# Altium schematic symbol library MS IMP Library.SchLib: 375 symbols (part 6 of 9)
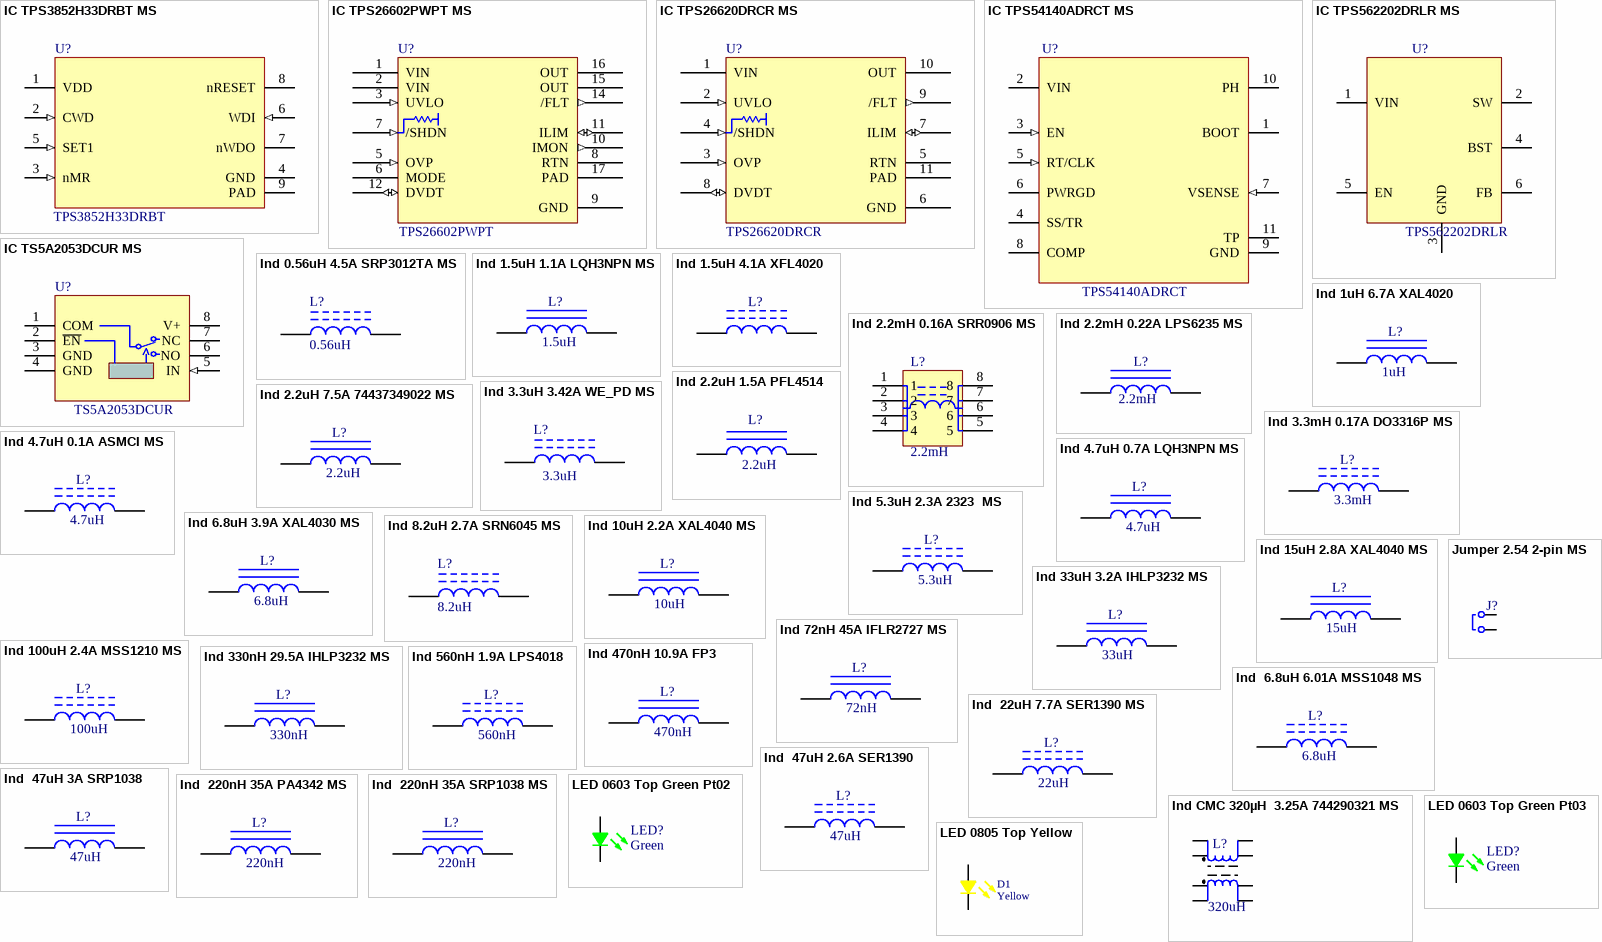
[diagram p27: symbols IC TPS3852H33DRBT MS to LED 0805 Top Yellow]

## IC TPS26620DRCR MS
designator U?, comment TPS26620DRCR
Electronic Fuse Regulator - 880mA 10-VSON (3x3); Manufacturer: Texas Instruments; Power Supply: 4.5V~57V; Production Status: Active; Distributor: Digi-Key; Distributor Part Number: 296-TPS26620DRCRCT-ND; Last Revision Date: 16.06.2021; Temperature Range: -40°C ~ +125°C; Mounting: SMD; ComponentLink1Description: Datasheet; ComponentLink1URL: https://www.ti.com/lit/ds/symlink/tps2662.pdf?ts=1623692638260&ref_url=https%253A%252F%252Fwww.google.com%252F; ComponentLink2Description: Distributor; ComponentLink2URL: https://www.digikey.com/en/products/detail/texas-instruments/TPS26620DRCR/9692668; ComponentLink3Description: Manufacturer; ComponentLink3URL: https://www.ti.com/product/TPS2662; Status: Not Checked; DB Parameter 1: 4.5V~57V; DB Parameter 2: 880mA; Rated Current: 880mA; Manufacurer Part Number: TPS26620DRCR
footprint DRC10_2P4X1P65_TEX MS
pins: 1 VIN (power), 2 UVLO (in), 3 OVP (in), 4 /SHDN (in), 5 RTN, 6 GND (power), 7 ILIM (io), 8 DVDT (io), 9 /FLT (out), 10 OUT (power), 11 PAD

## IC TPS54140ADRCT MS
designator U?, comment TPS54140ADRCT
IC REG BUCK ADJ 1.5A 10VSON; Manufacturer: Texas Instruments; Input Voltage: 3.5V ~ 42V; VFB: 0.8V; Production Status: Active; Output Current: 2A; Distributor: Digi-Key; Distributor Part Number: 296-30506-1-ND; Last Revision Date: 15.11.2021; Temperature Range: -40°C ~ +150°C; Mounting: SMD; ComponentLink1Description: Datasheet; ComponentLink1URL: https://www.ti.com/lit/ds/symlink/tps54140a.pdf?ts=1636910813422&ref_url=https%253A%252F%252Fwww.google.com%252F; ComponentLink2Description: Distributor; ComponentLink2URL: https://www.digikey.com/en/products/detail/texas-instruments/TPS54140ADRCT/3451631; ComponentLink3Description: Manufacturer; ComponentLink3URL: https://www.ti.com/product/TPS54140A#reference-designs; Status: Not Checked; Output Voltage: ADJ; DB Parameter 1: ADJ; DB Parameter 2: 1.5A; Isolation: N/A; Manufacturer Part Number: TPS54140ADRCT
footprint DRC10_2P4X1P65_TEX MS
pins: 1 BOOT, 2 VIN (power), 3 EN (in), 4 SS/TR, 5 RT/CLK (in), 6 PWRGD (oc), 7 VSENSE (in), 8 COMP, 9 GND (power), 10 PH, 11 TP (power)

## IC TPS562202DRLR MS
designator U?, comment TPS562202DRLR
DCDC, 4.3-V TO 17-V INPUT, 2-A OUTPUT; Manufacturer: Texas Instruments; Power Supply: 4.3V~17V; DB Parameter 2: 2A; Production Status: Active; Distributor: Digi-Key; Distributor Part Number: 296-TPS562202DRLRCT-ND; Last Revision Date: 08.08.2021; Temperature Range: -40°C ~ +150°C; Mounting: SMD; ComponentLink1Description: Datasheet; ComponentLink1URL: https://www.ti.com/lit/ds/symlink/tps562202.pdf?ts=1628166534683&ref_url=https%253A%252F%252Fwww.ti.com%252Fstore%252Fti%252Fen%252Fp%252Fproduct%252F%253Fp%253DTPS562202DRLR; ComponentLink2Description: Distributor; ComponentLink2URL: https://www.digikey.com/en/products/detail/texas-instruments/TPS562202DRLR/13531316?s=N4IgTCBcDaICoAUDKBWAbGMAGMARASgDL4gC6AvkA; ComponentLink3Description: Manufacturer; ComponentLink3URL: https://www.ti.com/product/TPS562202#product-details##pps; Status: Not Checked; DB Parameter 1: 4.3V~17V; Rated Current: 2A; Manufacturer Part Number: TPS562202DRLR
footprint SOTFL50P160X60-6N
pins: 1 VIN, 2 SW, 3 GND, 4 BST, 5 EN, 6 FB

## IC TS5A2053DCUR MS
designator U?, comment TS5A2053DCUR
IC SWITCH SPDT SINGLE 8VSSOP; Manufacturer: Texas Instruments; Power Supply: 1.65V ~ 5.5V; Production Status: Active; Distributor: Digi-Key; Distributor Part Number: 296-17751-1-ND; Last Revision Date: 14.07.2021; Temperature Range: -40°C ~ +85°C; Mounting: SMD; ComponentLink1Description: Datasheet; ComponentLink1URL: https://www.ti.com/lit/ds/symlink/ts5a2053.pdf?ts=1626251830714&ref_url=https%253A%252F%252Fwww.ti.com%252Fstore%252Fti%252Fen%252Fp%252Fproduct%252F%253Fp%253DTS5A2053DCUR%2526keyMatch%253DTS5A2053DCUR%2526tisearch%253Dsearch-everything; ComponentLink2Description: Distributor; ComponentLink2URL: https://www.digikey.com/en/products/detail/texas-instruments/TS5A2053DCUR/717105; ComponentLink3Description: Manufacturer; ComponentLink3URL: https://www.ti.com/store/ti/en/p/product/?p=TS5A2053DCUR&keyMatch=TS5A2053DCUR&tisearch=search-everything; Status: Not Checked; DB Parameter 1: TS5A2053DCUR; Manufacturer Part Number: TS5A2053DCUR
footprint DCU8 MS
pins: 1 COM, 2 ~{EN}, 3 GND (power), 4 GND (power), 5 IN (in), 6 NO, 7 NC, 8 V+

## Ind 0.56uH 4.5A SRP3012TA MS
designator L?, comment Inductance: 0.56uH  (hidden comment: Inductor)
Inductor 0.56uH 4.5A SRP3012TA; Manufacturer: Bourns Inc.; Manufacturer Part Number: SRP3012TA-R56M; Tolerance: ±20%; Saturation Current: 6.6A; DC Resistance: 0.036R; Core Material: Carbonyl Powder; SRF: 90MHz; Distributor: Digi-Key; Distributor Part Number: SRP3012TA-R56MCT-ND; Last Revision Date: 24.08.2021; Temperature Range: -40°C ~ +125°C; Mounting: SMD; ComponentLink1Description: Datasheet; ComponentLink1URL: https://www.bourns.com/docs/Product-Datasheets/SRP3012TA.pdf; ComponentLink2Description: Distributor; ComponentLink2URL: https://www.digikey.com/en/products/detail/bourns-inc/SRP3012TA-R56M/9350989; ComponentLink3Description: Manufacturer; ComponentLink3URL: https://www.bourns.com/docs/Product-Datasheets/SRP3012TA.pdf; Status: Not Checked; DB Parameter 1: 0.56uH; DB Parameter 2: 4.5A; DB Parameter 3: 0.036R; Rated Current: 4.5A
footprint INDPM3532X120N
pins: 1, 2

## Ind 1.5uH 1.1A LQH3NPN MS
designator L?, comment Inductance: 1.5uH  (hidden comment: Inductor)
Inductor 1.5uH 1.1A LQH3NPN; Manufacturer: Murata Electronics; Manufacturer Part Number: LQH3NPN1R5MJRL; Tolerance: ±20%; Saturation Current: 1.95A; DC Resistance: 0.049R; Core Material: Ferrite; DB Parameter 2: 2.8A; SRF: 60MHz; Distributor: Digi-Key; Distributor Part Number: 490-9576-1-ND; Last Revision Date: 30.06.2021; Temperature Range: -40°C ~ +105°C; Mounting: SMD; ComponentLink1Description: Datasheet; ComponentLink1URL: https://search.murata.co.jp/Ceramy/image/img/P02/JELF243A-0114.pdf; ComponentLink2Description: Distributor; ComponentLink2URL: https://www.digikey.com/en/products/detail/murata-electronics/LQH3NPN1R5MJRL/4864846; ComponentLink3Description: Manufacturer; Status: Not Checked; DB Parameter 1: 1.5uH; DB Parameter 3: 0.049R; Rated Current: 1.1A
footprint IND_LQH3NPN1R5MJRL
pins: 1, 2

## Ind 1.5uH 4.1A XFL4020
designator L?, comment Inductor  (value not drawn)
Inductor 1.5uH 4.1A XFL4020; Manufacturer: Coilcraft; Manufacturer Part Number: XFL4020-152MEB; Tolerance: ±20%; DC Resistance: 0.035R; Core Material: Ferrite; DB Parameter 3: 0.033R; Rated Current: 6.7A; Distributor: Mouser; Distributor Part Number: 994-XFL4020-152MEB; Last Revision Date: 20.10.2020; Temperature Range: -40°C ~ +125°C; Mounting: SMD; ComponentLink1Description: Datasheet; ComponentLink1URL: https://eu.mouser.com/datasheet/2/597/xfl4020-270756.pdf; ComponentLink2Description: Distributor; ComponentLink2URL: https://eu.mouser.com/ProductDetail/Coilcraft/XFL4020-152MEB?qs=%2Fha2pyFaduigLhcKZCbSexN8vcfhBgUvAPZqeeynjZnfOZWxBXzTQQ%3D%3D; ComponentLink3Description: Manufacturer; ComponentLink3URL: https://www.coilcraft.com/en-us/products/power/shielded-inductors/molded-inductor/xfl/xfl4020/#; Status: Not Checked; Saturation Current: 4.1A; DB Parameter 1: 1.5uH; DB Parameter 2: 4.1A
footprint INDP XFL4020 MS
pins: 1, 2

## Ind 1uH 6.7A XAL4020
designator L?, comment Inductance: 1uH  (hidden comment: Inductor)
Inductor 1uH 6.7A XAL4020; Manufacturer: Coilcraft; Manufacturer Part Number: XAL4020-102MEC; Tolerance: ±20%; Saturation Current: 8.7A; DC Resistance: 0.0146R; Core Material: Composite; DB Parameter 1: 1.5uH; SRF: 79MHz; Distributor: Mouser; Distributor Part Number: 994-XAL4020-102MEC; Last Revision Date: 07.04.2021; Temperature Range: -40°C ~ +125°C; Mounting: SMD; ComponentLink1Description: Datasheet; ComponentLink1URL: https://eu.mouser.com/datasheet/2/597/xal4000-270751.pdf; ComponentLink2Description: Distributor; ComponentLink2URL: https://eu.mouser.com/ProductDetail/Coilcraft/XAL4020-102MEC?qs=zCSbvcPd3pbLq0M7ZKfPRA%3D%3D; ComponentLink3Description: Manufacturer; ComponentLink3URL: https://eu.mouser.com/datasheet/2/597/xal4000-270751.pdf; Status: Not Checked; DB Parameter 2: 6.7A; DB Parameter 3: 0.0146R; Rated Current: 6.7A
footprint INDP XFL4020 MS
pins: 1, 2

## Ind 2.2mH 0.16A SRR0906 MS
designator L?, comment Inducance: 2.2mH  (hidden comment: Inductor)
Inductor 2.2mH 0.16A SRR0906; Manufacturer: Bourns; Manufacturer Part Number: SRR0906-222YL; Tolerance: ±15%; Saturation Current: 0.18A; DC Resistance: 0.055R; Core Material: Ferrite; DB Parameter 3: 8.5R; Rated Current: 1.6A; SRF: 1.5MHz; Distributor: Mouser; Distributor Part Number: 652-SRR0906-222YL; Last Revision Date: 03.12.2021; Temperature Range: -40°C ~ +125°C; Mounting: SMD; ComponentLink1Description: Datasheet; ComponentLink1URL: https://eu.mouser.com/datasheet/2/54/SRR0906-1391272.pdf; ComponentLink2Description: Distributor; ComponentLink2URL: https://eu.mouser.com/ProductDetail/Bourns/SRR0906-222YL?qs=%2Fha2pyFadujN6V39JVHpRjY603%2FBkn2pO3UzlmLM0FdeodGOOmcCVg%3D%3D; ComponentLink3Description: Manufacturer; ComponentLink3URL: https://eu.mouser.com/datasheet/2/54/SRR0906-1391272.pdf; Status: Not Checked; DB Parameter 1: 2.2mH; DB Parameter 2: 0.16A
footprint SRR0906222YL MS
pins: 1, 2, 3, 4, 5, 6, 7, 8

## Ind 2.2mH 0.22A LPS6235 MS
designator L?, comment Inducance: 2.2mH  (hidden comment: Inductor)
Inductor 2.2mH 0.22A LPS6235; Manufacturer: Coilcraft; Manufacturer Part Number: LPS6235-225MRC; Tolerance: ±20%; Saturation Current: 0.11A; DC Resistance: 6.7R; Core Material: Ferrite; SRF: 1.5MHz; Distributor: Mouser; Distributor Part Number: 994-LPS6235-225MRC; Last Revision Date: 18.08.2023.; Temperature Range: -40°C ~ +85°C; Mounting: SMD; ComponentLink1Description: Datasheet; ComponentLink1URL: https://www.coilcraft.com/getmedia/6d1d784f-2f6f-4f07-8e50-5f62900ff819/lps6235.pdf; ComponentLink2Description: Distributor; ComponentLink2URL: https://eu.mouser.com/ProductDetail/Coilcraft/LPS6235-225MRC?qs=QQJxVsr8EGZHFEJoaJBq5g%3D%3D; ComponentLink3Description: Manufacturer; ComponentLink3URL: https://www.coilcraft.com/en-us/products/power/shielded-inductors/ferrite-drum/lps/lps6235/lps6235-225/; Status: Not Checked; DB Parameter 1: 2.2mH; DB Parameter 2: 0.22A; DB Parameter 3: 6.7R; Rated Current: 0.22A
footprint LPS6235 MS
pins: 1, 2

## Ind 2.2uH 1.5A PFL4514
designator L?, comment Inductance: 2.2uH  (hidden comment: Inductor)
Inductor 2.2uH 1.5A PFL4514; Manufacturer: Coilcraft; Manufacturer Part Number: PFL4514-222MEB; Tolerance: ±20%; Saturation Current: 2.8A; DC Resistance: 0.135R; Core Material: Composite; Distributor: Mouser; Distributor Part Number: 994-PFL4514-222MEB; Last Revision Date: 20.10.2020; Temperature Range: -40°C ~ +85°C; Mounting: SMD; ComponentLink1Description: Datasheet; ComponentLink1URL: https://eu.mouser.com/datasheet/2/597/pfl4514-270682.pdf; ComponentLink2Description: Distributor; ComponentLink2URL: https://eu.mouser.com/ProductDetail/Coilcraft/PFL4514-222MEB?qs=VJjuEbE9QBOLjudvNJHAOw%3D%3D; ComponentLink3Description: Manufacturer; ComponentLink3URL: https://www.coilcraft.com/en-us/products/power/shielded-inductors/molded-inductor/pfl/pfl4514/#; Status: Not Checked; Rated Current: 1.5A; DB Parameter 1: 2.2uH; DB Parameter 2: 1.5A; DB Parameter 3: 0.135R
footprint INDP PFL4514 MS (Coilcraft Shielded Power Inductors)
pins: 1, 2

## Ind 2.2uH 7.5A 74437349022 MS
designator L?, comment Inductance: 2.2uH  (hidden comment: Inductor)
Inductor 2.2uH 7.5A 0.012R; Manufacturer: Würth Elektronik; Manufacturer Part Number: 74437349022; Tolerance: ±20%; Saturation Current: 14A; Core Material: Iron Powder; Distributor: Digi-Key; Distributor Part Number: 732-3352-1-ND; Last Revision Date: 09.08.2021; Temperature Range: -40°C ~ +150°C; Mounting: SMD; ComponentLink1Description: Datasheet; ComponentLink1URL: https://www.we-online.de/katalog/datasheet/74437349022.pdf; ComponentLink2Description: Distributor; ComponentLink2URL: https://www.digikey.com/en/products/detail/w%C3%BCrth-elektronik/74437349022/2791021?s=N4IgTCBcDaIOwBYEGY7IQTgAxggXQF8g; ComponentLink3Description: Manufacturer; ComponentLink3URL: https://www.we-online.com/catalog/en/WE-LHMI?sq=74437349022&sp=https%3A%2F%2Fwww.we-online.com%2Fweb%2Fen%2Fwuerth_elektronik%2Fsearchpage.php%3Fsearch%3D74437349022#74437349022; Status: Not Checked; DC Resistance: 0.012R; DB Parameter 1: 2.2uH; DB Parameter 2: 7.5A; DB Parameter 3: 0.012R; Rated Current: 7.5A
footprint INDPM110100X400N
pins: 1, 2

## Ind 3.3mH 0.17A DO3316P MS
designator L?, comment Inductance: 3.3mH  (hidden comment: Inductor)
Inductor  3.3mH 0.17A 8.97R; Manufacturer: Coilcraft; Manufacturer Part Number: DO3316P-335MLD; Tolerance: ±20%; Core Material: Ferrite; Distributor: Mouser; Distributor Part Number: 994-DO3316P-335MLD; Last Revision Date: 02.12.2021; Temperature Range: -40°C ~ +85°C; Mounting: SMD; ComponentLink1Description: Datasheet; ComponentLink1URL: https://www.coilcraft.com/getmedia/68efbd05-4ed7-4d0c-b638-adab500812f7/do3316p.pdf; ComponentLink2Description: Distributor; ComponentLink2URL: https://eu.mouser.com/ProductDetail/Coilcraft/DO3316P-335MLD?qs=%2Fha2pyFadujmgKpV4%2F96nMhlFk2IXlQcssImeqhyr79%2FvpkEiGuuVg%3D%3D; ComponentLink3Description: Manufacturer; ComponentLink3URL: https://www.coilcraft.com/en-us/products/power/unshielded-inductors/ferrite-drum-surface-mount/do/do3316p/; Status: Not Checked; Saturation Current: 0.17A; DC Resistance: 8.97R; DB Parameter 1: 3.3mH; DB Parameter 2: 0.17A; DB Parameter 3: 8.97R; Rated Current: 0.17A
footprint DO3316P MS
pins: 1, 2

## Ind 3.3uH 3.42A WE_PD MS
designator L?, comment Inductance: 3.3uH  (hidden comment: Inductor)
Inductor 3.3uH 3.42A WE_PD; Manufacturer: Wuerth Elektronik; Manufacturer Part Number: 7447789003; Tolerance: ±20%; Saturation Current: 4.2A; DC Resistance: 0.03R; Core Material: Ferrite; SRF: 61MHz; Distributor: Digi-Key; Distributor Part Number: 732-1174-1-ND; Last Revision Date: 26.08.2021; Temperature Range: -40°C ~ +125°C; Mounting: SMD; ComponentLink1Description: Datasheet; ComponentLink1URL: https://www.we-online.com/katalog/datasheet/7447789003.pdf; ComponentLink2Description: Distributor; ComponentLink2URL: https://www.digikey.com/en/products/detail/w%C3%BCrth-elektronik/7447789003/1638579?s=N4IgTCBcDaIOwBYFzgDgJwAZMGYQF0BfIA; ComponentLink3Description: Manufacturer; ComponentLink3URL: https://www.we-online.com/catalog/en/WE-PD?sq=7447789003&sp=https%3A%2F%2Fwww.we-online.com%2Fweb%2Fen%2Fwuerth_elektronik%2Fsearchpage.php%3Fsearch%3D7447789003#7447789003; Status: Not Checked; DB Parameter 1: 3.3uH; DB Parameter 2: 3.42A; DB Parameter 3: 0.03R; Rated Current: 4.2A
footprint WE-PD_7332R (SMT Shielded Power Inductor, 2-leads, body 7.3x7.3mm)
pins: 1, 2

## Ind 4.7uH 0.1A ASMCI MS
designator L?, comment Inductance: 4.7uH  (hidden comment: Inductor)
Inductor 4.7uH 0.1A ASMCI; Manufacturer: Abracon LLC; Manufacturer Part Number: ASMCI-0603-4R7M-T; Tolerance: ±20%; DC Resistance: 0.6R; Core Material: Ferrite; SRF: 35MHz; Distributor: Digi-Key; Distributor Part Number: 535-12252-1-ND; Last Revision Date: 28.07.2021; Temperature Range: -40°C ~ +85°C; Mounting: SMD; ComponentLink1Description: Datasheet; ComponentLink1URL: https://abracon.com/Magnetics/power/ASMCI-0603.pdf; ComponentLink2Description: Distributor; ComponentLink2URL: https://www.digikey.com/en/products/detail/abracon-llc/ASMCI-0603-4R7M-T/4215138?s=N4IgjCBcpgnAHLKoDGUBmBDANgZwKYA0IA9lANogAMIAusQA4AuUIAykwE4CWAdgOYgAvsQBMVeAHZkIZqwCqvbkwDy6ALL5MuAK6d8IYjtYBWgBKGQAWz6sALADppxK5gAe9p8LET4MtJBYeESkFOBUVAAEVgCCdIwskCCKymqa2noGIiAAtKL%2BUFw6IWSQlACsdELVQA; ComponentLink3Description: Manufacturer; ComponentLink3URL: https://abracon.com/parametric/inductors/ASMCI-0603-4R7M-T; Status: Not Checked; DB Parameter 1: 4.7uH; DB Parameter 2: 0.1A; DB Parameter 3: 0.6R; Rated Current: 0.1A
footprint L0603L 0.8MM MS (Chip Resistor, Body 1.6x0.8mm, IPC High Density)
pins: 1, 2

## Ind 4.7uH 0.7A LQH3NPN MS
designator L?, comment Inductance: 4.7uH  (hidden comment: Inductor)
Inductor 4.7uH 0.7A LQH3NPN; Manufacturer: Murata Electronics; Manufacturer Part Number: LQH3NPN4R7MJRL; Tolerance: ±20%; Saturation Current: 1.18A; DC Resistance: 0.144R; Core Material: Ferrite; SRF: 40MHz; Distributor: Mouser; Distributor Part Number: 81-LQH3NPN4R7MJRL; Last Revision Date: 05.01.2022; Temperature Range: -40°C ~ +125°C; Mounting: SMD; ComponentLink1Description: Datasheet; ComponentLink1URL: https://eu.mouser.com/datasheet/2/281/1/JELF243A_0114-1699541.pdf; ComponentLink2Description: Distributor; ComponentLink2URL: https://eu.mouser.com/ProductDetail/Murata-Electronics/LQH3NPN4R7MJRL?qs=sGAEpiMZZMtXHE36kCvv31u17Rsuap3%2F7dIjmdZ55oE%3D; ComponentLink3Description: Manufacturer; ComponentLink3URL: https://www.murata.com/en-us/products/productdetail?partno=LQH3NPN4R7MJR%23; Status: Not Checked; DB Parameter 1: 4.7uH; DB Parameter 2: 0.7A; DB Parameter 3: 0.144R; Rated Current: 0.7A
footprint IND_LQH3NPN1R5MJRL
pins: 1, 2

## Ind 5.3uH 2.3A 2323  MS
designator L?, comment Inductance: 5.3uH  (hidden comment: Inductor)
Inductor 5.3uH 2.3A 40 MOHM; Manufacturer: Wurth Elektronik; Manufacturer Part Number: 744053005; Tolerance: ±30%; DC Resistance: 0.04R; Core Material: Ferrite; DB Parameter 2: 7.7A; Rated Current: 1.9A; Distributor: Mouser; Distributor Part Number: 710-744053005; Last Revision Date: 01.11.2022; Temperature Range: -40°C ~ +125°C; Mounting: SMD; ComponentLink1Description: Datasheet; ComponentLink1URL: https://www.we-online.com/catalog/datasheet/744053005.pdf; ComponentLink2Description: Distributor; ComponentLink2URL: https://eu.mouser.com/ProductDetail/Wurth-Elektronik/744053005?qs=PGXP4M47uW6y7VIGFQ%252BMog%3D%3D; ComponentLink3Description: Manufacturer; ComponentLink3URL: https://www.we-online.com/catalog/en/WE-TPC?sq=744053005&sp=https%3A%2F%2Fwww.we-online.com%2Fweb%2Fen%2Fwuerth_elektronik%2Fsearchpage.php%3Fsearch%3D744053005#744053005; Status: Not Checked; Saturation Current: 2.3A; DB Parameter 1: 5.3uH; DB Parameter 3: 0.04R
footprint WE-TPC_5818/582892
pins: 1, 2

## Ind 6.8uH 3.9A XAL4030 MS
designator L?, comment Inductance: 6.8uH  (hidden comment: Inductor)
Inductor 6.8uH 3.9A XAL4030; Manufacturer: Coilcraft; Manufacturer Part Number: XAL4030-682MEC; Tolerance: ±20%; DC Resistance: 0.0741R; Core Material: Composite; SRF: 29MHz; Distributor: Mouser; Distributor Part Number: 994-XAL4030-682MEC; Last Revision Date: 09.06.2021; Temperature Range: -40°C ~ +125°C; Mounting: SMD; ComponentLink1Description: Datasheet; ComponentLink1URL: https://eu.mouser.com/datasheet/2/597/xal4000-270751.pdf; ComponentLink2Description: Distributor; ComponentLink2URL: https://eu.mouser.com/ProductDetail/Coilcraft/XAL4030-682MEC?qs=%2Fha2pyFadujapknYQA%252BajhlhVaojfnHlq1haXFcir3wMc2OFJNQW9Q%3D%3D; ComponentLink3Description: Manufacturer; ComponentLink3URL: https://www.coilcraft.com/en-us/products/power/shielded-inductors/molded-inductor/xal/xal40xx/xal4030-682/; Status: Not Checked; Saturation Current: 3.9A; DB Parameter 1: 6.8uH; DB Parameter 2: 3.9A; DB Parameter 3: 0.0741R; Rated Current: 3.9A
footprint INDP XFL4020 MS
pins: 1, 2

## Ind 8.2uH 2.7A SRN6045 MS
designator L?, comment Inducance: 8.2uH  (hidden comment: Inductor)
Inductor 8.2uH 2.7A SRN6045; Manufacturer: Bourns; Manufacturer Part Number: SRN6045-8R2Y; Tolerance: ±30%; Saturation Current: 3.3A; DC Resistance: 0.055R; Core Material: Ferrite; SRF: 18MHz; Distributor: Mouser; Distributor Part Number: 652-SRN6045-8R2Y; Last Revision Date: 17.11.2021; Temperature Range: -40°C ~ +125°C; Mounting: SMD; ComponentLink1Description: Datasheet; ComponentLink1URL: https://eu.mouser.com/datasheet/2/54/srn6045-1391386.pdf; ComponentLink2Description: Distributor; ComponentLink2URL: https://eu.mouser.com/ProductDetail/Bourns/SRN6045-8R2Y?qs=%2Fha2pyFadui4iFE%2F2WfOthT8WCfLgE77aawfAsqR8DDVypbWq5MhhQ%3D%3D; ComponentLink3Description: Manufacturer; ComponentLink3URL: https://eu.mouser.com/datasheet/2/54/srn6045-1391386.pdf; Status: Not Checked; DB Parameter 1: 8.2uH; DB Parameter 2: 2.7A; DB Parameter 3: 0.055R; Rated Current: 2.7A
footprint SRN60458R2Y MS
pins: 1, 2

## Ind 10uH 2.2A XAL4040 MS
designator L?, comment Inductance: 10uH  (hidden comment: Inductor)
Inductor 10uH 2.2A XAL4040; Manufacturer: Coilcraft; Manufacturer Part Number: XAL4040-103MEC; Tolerance: ±20%; Saturation Current: 3A; DC Resistance: 0.084R; Core Material: Composite; SRF: 24MHz; Distributor: Mouser; Distributor Part Number: 994-XAL4040-103MEC; Last Revision Date: 07.04.2021; Temperature Range: -40°C ~ +125°C; Mounting: SMD; ComponentLink1Description: Datasheet; ComponentLink1URL: https://eu.mouser.com/datasheet/2/597/xal4000-270751.pdf; ComponentLink2Description: Distributor; ComponentLink2URL: https://eu.mouser.com/ProductDetail/Coilcraft/XAL4040-103MEC?qs=%2Fha2pyFaduj%252BiRTw6zeAh02drPaXlsfQuRO1yFr9qkyaCs7lqkcxvg%3D%3D; ComponentLink3Description: Manufacturer; ComponentLink3URL: https://eu.mouser.com/datasheet/2/597/xal4000-270751.pdf; Status: Not Checked; DB Parameter 1: 10uH; DB Parameter 2: 2.2A; DB Parameter 3: 0.084R; Rated Current: 2.2A
footprint INDP XFL4020 MS
pins: 1, 2

## Ind 15uH 2.8A XAL4040 MS
designator L?, comment Inductance: 15uH  (hidden comment: Inductor)
Inductor 15uH 2.8A XAL4040; Manufacturer: Coilcraft; Manufacturer Part Number: XAL4040-153MEC; Tolerance: ±20%; Saturation Current: 2.9A; DC Resistance: 0.12R; Core Material: Composite; SRF: 20MHz; Distributor: Mouser; Distributor Part Number: 994-XAL4040-153MEC; Last Revision Date: 09.06.2021; Temperature Range: -40°C ~ +125°C; Mounting: SMD; ComponentLink1Description: Datasheet; ComponentLink1URL: https://eu.mouser.com/datasheet/2/597/xal4000-270751.pdf; ComponentLink2Description: Distributor; ComponentLink2URL: https://eu.mouser.com/ProductDetail/Coilcraft/XAL4040-153MEC?qs=%2Fha2pyFaduj%252BiRTw6zeAh7LbfC2%252BieFr9f9ccTD0fojiR6VKyvszsg%3D%3D; ComponentLink3Description: Manufacturer; ComponentLink3URL: https://www.coilcraft.com/en-us/products/power/shielded-inductors/molded-inductor/xal/xal40xx/xal4040-153/; Status: Not Checked; DB Parameter 1: 15uH; DB Parameter 2: 2.8A; DB Parameter 3: 0.12R; Rated Current: 2.8A
footprint INDP XFL4020 MS
pins: 1, 2

## Ind 33uH 3.2A IHLP3232 MS
designator L?, comment Inductance: 33uH  (hidden comment: Inductor)
Inductor 33uH 3.2A IHLP3232; Manufacturer: Vishay Dale; Manufacturer Part Number: IHLP3232DZER330M11; Tolerance: ±20%; DC Resistance: 0.00144R; Distributor: Mouser; Distributor Part Number: 70-IHLP3232DZER330M1; Last Revision Date: 16.11.2021; Temperature Range: -55°C ~ +125°C; Mounting: SMD; ComponentLink1Description: Datasheet; ComponentLink1URL: https://eu.mouser.com/datasheet/2/427/VISH_S_A0010791434_1-2571488.pdf; ComponentLink2Description: Distributor; ComponentLink2URL: https://eu.mouser.com/ProductDetail/Vishay/IHLP3232DZER330M11?qs=sGAEpiMZZMtRgJo%2FZ%2FMF7EKzlFqg04UM4ABjHcc5pT0%3D; ComponentLink3Description: Manufacturer; ComponentLink3URL: https://www.vishay.com/product?docid=34313; Status: Not Checked; Saturation Current: 3.2A; DB Parameter 1: 33uH; DB Parameter 2: 3.2A; DB Parameter 3: 0.00144R; Rated Current: 3.2A
footprint IHLP3232
pins: 1, 2

## Ind 72nH 45A IFLR2727 MS
designator L?, comment Inductance: 72nH  (hidden comment: Inductor)
Inductor 72nH 45A IFLR2727; Manufacturer: Vishay Dale; Manufacturer Part Number: IFLR2727EZER72NM01; Tolerance: ±20%; Saturation Current: 58A; DC Resistance: 0.035R; Distributor: Digi-Key; Distributor Part Number: 541-3104-1-ND; Last Revision Date: 17.03.2021; Temperature Range: -40°C ~ +125°C; Mounting: SMD; ComponentLink1Description: Datasheet; ComponentLink1URL: https://www.vishay.com/docs/34420/iflr-2727ez-01.pdf; ComponentLink2Description: Distributor; ComponentLink2URL: https://www.digikey.com/en/products/detail/vishay-dale/IFLR2727EZER72NM01/6181814?s=N4IgTCBcDaIJIDEAyAlMB2DBRAWllmAcgLIAMAjCALoC%2BQA; ComponentLink3Description: Manufacturer; ComponentLink3URL: https://www.vishay.com/docs/34420/iflr-2727ez-01.pdf; Status: Not Checked; DB Parameter 1: 72nH; DB Parameter 2: 45A; DB Parameter 3: 0.035R; Rated Current: 45A
footprint IFLR2727
pins: 1, 2

## Ind 100uH 2.4A MSS1210 MS
designator L?, comment Inductance: 100uH  (hidden comment: Inductor)
Inductor 100uH 2.4A 0.125R; Manufacturer: Coilcraft; Manufacturer Part Number: MSS1210-104KED; Tolerance: ±10%; Saturation Current: 3.4A; Core Material: Ferrite; SRF: 3.6MHz; Distributor: Mouser; Distributor Part Number: 994-MSS1210-104KED; Last Revision Date: 02.12.2021; Temperature Range: -40°C ~ +85°C; Mounting: SMD; ComponentLink1Description: Datasheet; ComponentLink1URL: https://eu.mouser.com/datasheet/2/597/mss1210-270677.pdf; ComponentLink2Description: Distributor; ComponentLink2URL: https://eu.mouser.com/ProductDetail/Coilcraft/MSS1210-104KED?qs=zCSbvcPd3pbNwzTgkTyd0g%3D%3D; ComponentLink3Description: Manufacturer; ComponentLink3URL: https://www.coilcraft.com/en-us/products/power/shielded-inductors/ferrite-drum/mss-mos/mss1210/?skuId=5439|7722; Status: Not Checked; DC Resistance: 0.125R; DB Parameter 1: 100uH; DB Parameter 2: 2.4A; DB Parameter 3: 0.125R; Rated Current: 2.4A
footprint INDPM120120X1020N MS
pins: 1, 2

## Ind 330nH 29.5A IHLP3232 MS
designator L?, comment Inductance: 330nH  (hidden comment: Inductor)
Inductor 330nH 29.5A IHLP3232; Manufacturer: Vishay Dale; Manufacturer Part Number: IHLP3232DZERR33M01; Tolerance: ±20%; Saturation Current: 36A; DC Resistance: 0.00214R; DB Parameter 2: 45A; Distributor: Digi-Key; Distributor Part Number: 541-1379-1-ND; Last Revision Date: 17.03.2021; Temperature Range: -55°C ~ +125°C; Mounting: SMD; ComponentLink1Description: Datasheet; ComponentLink1URL: https://www.vishay.com/docs/34316/ihlp-3232dz-01.pdf; ComponentLink2Description: Distributor; ComponentLink2URL: https://www.digikey.com/en/products/detail/vishay-dale/IHLP3232DZERR33M01/2657475; ComponentLink3Description: Manufacturer; ComponentLink3URL: https://www.vishay.com/docs/34316/ihlp-3232dz-01.pdf; Status: Not Checked; DB Parameter 1: 330nH; DB Parameter 3: 0.00214R; Rated Current: 29.5A
footprint IHLP3232
pins: 1, 2

## Ind 470nH 10.9A FP3
designator L?, comment Inductance: 470nH  (hidden comment: Inductor)
Inductor 470nH 10.9A 3.67 MOHM; Manufacturer: Eaton - Electronics Division; Manufacturer Part Number: FP3-R47-R; Tolerance: ±15%; Saturation Current: 14.9A; DC Resistance: 0.00367R; Core Material: Iron; DB Parameter 3: 0.03367R; Distributor: Digi-Key; Distributor Part Number: 513-1553-1-ND; Last Revision Date: 04.02.2021; Temperature Range: -40°C ~ +155°C; Mounting: SMD; ComponentLink1Description: Datasheet; ComponentLink1URL: https://www.eaton.com/content/dam/eaton/products/electronic-components/resources/data-sheet/eaton-fp3-low-profile-inductors-data-sheet.pdf; ComponentLink2Description: Distributor; ComponentLink2URL: https://www.digikey.com/en/products/detail/eaton-electronics-division/FP3-R47-R/667435?s=N4IgTCBcDaIGIAUDMBaASgFgOzpAXQF8g; ComponentLink3Description: Manufacturer; ComponentLink3URL: https://www.eaton.com/content/dam/eaton/products/electronic-components/resources/data-sheet/eaton-fp3-low-profile-inductors-data-sheet.pdf; Status: Not Checked; DB Parameter 1: 470nH; DB Parameter 2: 10.9A; Rated Current: 10.9A
footprint INDM7267X300N
pins: 1, 2

## Ind 560nH 1.9A LPS4018
designator L?, comment Inductance: 560nH  (hidden comment: Inductor)
Inductor 560nH 1.9A LPS4018; Manufacturer: Coilcraft; Manufacturer Part Number: LPS4018-561MRB; Tolerance: ±20%; Saturation Current: 4.8A; DC Resistance: 0.033R; Core Material: Ferrite; Distributor: Mouser; Distributor Part Number: 994-LPS4018-561MRB; Last Revision Date: 20.10.2020; Temperature Range: -40°C ~ +125°C; Mounting: SMD; ComponentLink1Description: Datasheet; ComponentLink1URL: https://eu.mouser.com/datasheet/2/597/lps4018-270702.pdf; ComponentLink2Description: Distributor; ComponentLink2URL: https://eu.mouser.com/ProductDetail/Coilcraft/LPS4018-561MRB?qs=MW2gS7wPCVxAqdrqzDujzw%3D%3D; ComponentLink3Description: Manufacturer; ComponentLink3URL: https://www.coilcraft.com/en-us/products/power/shielded-inductors/molded-inductor/pfl/pfl4514/#; Status: Not Checked; DB Parameter 1: 560nH; DB Parameter 2: 1.9A; DB Parameter 3: 0.033R; Rated Current: 1.9A
footprint INDP LPS4018 MS
pins: 1, 2

## Ind  6.8uH 6.01A MSS1048 MS
designator L?, comment Inductance: 6.8uH  (hidden comment: Inductor)
Inductor 6.8uH 6.01A 15.4 MOHM; Manufacturer: Coilcraft; Manufacturer Part Number: MSS1048-682NLC; Tolerance: ±30%; Saturation Current: 5.94A; DC Resistance: 0.0154R; Core Material: Ferrite; DB Parameter 2: 7.7A; Distributor: Mouser; Distributor Part Number: 994-MSS1048-682NLC; Last Revision Date: 13.10.2021; Temperature Range: -40°C ~ +85°C; Mounting: SMD; ComponentLink1Description: Datasheet; ComponentLink1URL: https://www.coilcraft.com/getmedia/bd5140ec-db32-4346-a029-5182269dc08e/mss1048.pdf; ComponentLink2Description: Distributor; ComponentLink2URL: https://eu.mouser.com/ProductDetail/Coilcraft/MSS1048-682NLC?qs=zCSbvcPd3pbSSO8E72SmNA%3D%3D; ComponentLink3Description: Manufacturer; ComponentLink3URL: https://www.coilcraft.com/en-us/products/power/shielded-inductors/ferrite-drum/mss-mos/mss1048/?skuId=5412|7778; Status: Not Checked; DB Parameter 1: 6.8uH; DB Parameter 3: 0.0154R; Rated Current: 6.01A
footprint INDPM110100X400N_MSS1048
pins: 1, 2

## Ind  22uH 7.7A SER1390 MS
designator L?, comment Inductance: 22uH  (hidden comment: Inductor)
Inductor 22uH 7.7A 2.31 MOHM; Manufacturer: Coilcraft; Manufacturer Part Number: SER1390-223MLD; Tolerance: ±20%; Saturation Current: 7.36A; DC Resistance: 0.0231R; Core Material: Ferrite; Distributor: Mouser; Distributor Part Number: 994-SER1390-223MLD; Last Revision Date: 13.10.2021; Temperature Range: -40°C ~ +85°C; Mounting: SMD; ComponentLink1Description: Datasheet; ComponentLink1URL: https://www.coilcraft.com/getmedia/e42d9f84-9826-47b6-9630-253562c4dcd4/ser1390.pdf; ComponentLink2Description: Distributor; ComponentLink2URL: https://eu.mouser.com/ProductDetail/Coilcraft/SER1390-223MLD?qs=%2Fha2pyFaduhWBtnXIZyYs4AVfNeoZUgRvJgVeQEgqEL0JdfCy4jU9g%3D%3D; ComponentLink3Description: Manufacturer; ComponentLink3URL: https://www.coilcraft.com/en-us/products/power/shielded-inductors/high-current-flat-wire/ser/ser1390/ser1390-223/; Status: Not Checked; DB Parameter 1: 22uH; DB Parameter 2: 7.7A; DB Parameter 3: 0.0231R; Rated Current: 7.7A
footprint SER1390153MLB
pins: 1, 2

## Ind  47uH 2.6A SER1390
designator L?, comment Inductance: 47uH  (hidden comment: Inductor)
Inductor 47uH 2.6A 2.31 MOHM; Manufacturer: Coilcraft; Manufacturer Part Number: SER1390-473MLB; Tolerance: ±20%; Saturation Current: 5.7A; DC Resistance: 0.0231R; Core Material: Ferrite; Distributor: Mouser; Distributor Part Number: 994-SER1390-473MLB; Last Revision Date: 10.03.2021; Temperature Range: -40°C ~ +85°C; Mounting: SMD; ComponentLink1Description: Datasheet; ComponentLink1URL: https://www.coilcraft.com/getmedia/e42d9f84-9826-47b6-9630-253562c4dcd4/ser1390.pdf; ComponentLink2Description: Distributor; ComponentLink2URL: https://eu.mouser.com/ProductDetail/Coilcraft/SER1390-473MLB?qs=mBwMfv9Clf364iVQiAVtgQ%3D%3D; ComponentLink3Description: Manufacturer; ComponentLink3URL: https://www.coilcraft.com/en-us/products/power/shielded-inductors/high-current-flat-wire/ser/ser1390/ser1390-473/; Status: Not Checked; DB Parameter 1: 47uH; DB Parameter 2: 2.6A; DB Parameter 3: 0.0231R; Rated Current: 2.6A
footprint SER1390153MLB
pins: 1, 2

## Ind  47uH 3A SRP1038
designator L?, comment Inductance: 47uH  (hidden comment: Inductor)
Inductor 47uH 3A 167 MOHM; Manufacturer: Bourns Inc.; Manufacturer Part Number: SRP1038A-470M; Tolerance: ±20%; Saturation Current: 4.5A; DC Resistance: 0.167R; Core Material: Carbonyl Iron; Distributor: Digi-Key; Distributor Part Number: SRP1038A-470MCT-ND; Last Revision Date: 10.03.2021; Temperature Range: -40°C ~ +150°C; Mounting: SMD; ComponentLink1Description: Datasheet; ComponentLink1URL: https://www.bourns.com/docs/Product-Datasheets/SRP1038A.pdf; ComponentLink2Description: Distributor; ComponentLink2URL: https://www.digikey.com/en/products/detail/bourns-inc/SRP1038A-470M/4876849; ComponentLink3Description: Manufacturer; ComponentLink3URL: https://www.bourns.com/docs/Product-Datasheets/SRP1038A.pdf; Status: Not Checked; DB Parameter 1: 47uH; DB Parameter 2: 3A; DB Parameter 3: 0.167R; Rated Current: 3A
footprint INDPM110100X400N
pins: 1, 2

## Ind  220nH 35A PA4342 MS
designator L?, comment Inductance: 220nH  (hidden comment: Inductor)
Inductor 220nH 35A 1 MOHM; Manufacturer: Pulse Electronics Power; Manufacturer Part Number: PA4342.221NLT; Tolerance: ±20%; Saturation Current: 60A; DC Resistance: 0.001R; Core Material: Carbonyl Iron; Distributor: Digi-Key; Distributor Part Number: 553-3427-1-ND; Last Revision Date: 26.07.2021; Temperature Range: -40°C ~ +125°C; Mounting: SMD; ComponentLink1Description: Datasheet; ComponentLink1URL: https://products.pulseelex.com/files/product_files/P769.pdf; ComponentLink2Description: Distributor; ComponentLink2URL: https://www.digikey.com/en/products/detail/pulse-electronics-power/PA4342-221NLT/6128258; ComponentLink3Description: Manufacturer; ComponentLink3URL: https://productfinder.pulseelectronics.com/product/pa4342.221nlt; Status: Not Checked; DB Parameter 1: 220nH; DB Parameter 2: 35A; DB Parameter 3: 0.001R; Rated Current: 35A
footprint PA4342
pins: 1, 2

## Ind  220nH 35A SRP1038 MS
designator L?, comment Inductance: 220nH  (hidden comment: Inductor)
Inductor 220nH 35A 1 MOHM; Manufacturer: Bourns Inc.; Manufacturer Part Number: SRP1038A-R22M; Tolerance: ±20%; Saturation Current: 60A; DC Resistance: 0.001R; Core Material: Carbonyl Iron; Distributor: Digi-Key; Distributor Part Number: SRP1038A-R22MCT-ND; Last Revision Date: 12.03.2021; Temperature Range: -40°C ~ +150°C; Mounting: SMD; ComponentLink1Description: Datasheet; ComponentLink1URL: https://www.bourns.com/docs/Product-Datasheets/SRP1038A.pdf; ComponentLink2Description: Distributor; ComponentLink2URL: https://www.digikey.com/en/products/detail/bourns-inc/SRP1038A-R22M/4876579; ComponentLink3Description: Manufacturer; ComponentLink3URL: https://www.bourns.com/docs/Product-Datasheets/SRP1038A.pdf; Status: Not Checked; DB Parameter 1: 220nH; DB Parameter 2: 35A; DB Parameter 3: 0.001R; Rated Current: 35A
footprint INDPM110100X400N
pins: 1, 2

## Ind CMC 320µH  3.25A 744290321 MS
designator L?, comment Inductance: 320uH  (hidden comment: Inductor Common Mode Choke)
Inductor 320uH 3.25A 744290321; Manufacturer: Würth Elektronik; DC Resistance: 0.029R; Core Material: Ferrite; Distributor: Digi-Key; Distributor Part Number: 732-5616-1-ND; Manufacturer Part Number: 744290321; Last Revision Date: 05.02.2021; Temperature Range: -40°C ~ 125°C; Mounting: SMD; ComponentLink1Description: Datasheet; ComponentLink1URL: https://www.we-online.de/katalog/datasheet/744290321.pdf; ComponentLink2Description: Distributor; ComponentLink2URL: https://www.digikey.com/en/products/detail/w%C3%BCrth-elektronik/744290321/4865725?s=N4IgTCBcDaIOwBYFgJwAYDMYCMIC6AvkA; ComponentLink3Description: Manufacturer; ComponentLink3URL: https://www.we-online.com/catalog/en/WE-UCF?sq=744290321&sp=https%3A%2F%2Fwww.we-online.com%2Fweb%2Fen%2Fwuerth_elektronik%2Fsearchpage.php%3Fsearch%3D744290321#744290321; Status: Not Checked; Saturation Current: 3.25A; DB Parameter 1: 320uH; DB Parameter 2: 3.25A; DB Parameter 3: 0.029R; Rated Current: 3.25A
footprint WE-UCF (SMD Inductor, body 14.5x12.5mm)
pins: 1, 2, 4, 5, 6, 7, 9, 10

## Jumper 2.54 2-pin MS
designator J?, comment Jumper  (value not drawn)
Jumper 2.54 2-pin; Manufacturer: Harwin Inc.; Manufacturer Part Number: M20-9990245; Pitch: 2.54mm; Rated Current: 3A; Production Status: Active; Distributor: Digi-Key; Distributor Part Number: 952-2261-ND; Last Revision Date: 02.11.2020.; Mounting: TH; ComponentLink1Description: Datasheet; ComponentLink1URL: https://cdn.harwin.com/pdfs/C001XX_M20_Series_Connectors.pdf; ComponentLink2Description: Distributor; ComponentLink2URL: https://www.digikey.com/en/products/detail/harwin-inc/M20-9990245/3728225?s=N4IgTCBcDaIBwFYEFoCyYAMyCcuNgBYEQBdAXyA; ComponentLink3Description: Manufacturer; ComponentLink3URL: harwin.com/products/M20-9990245/; Status: Not Checked; DB Parameter 1: M20-9990245; DB Parameter 2: 3A; DB Parameter 3: 2.54mm
footprint SIP-2P MS
pins: 1, 2

## LED 0603 Top Green Pt02
designator LED?, comment Green
LED 0603 Top Green; Manufacturer: Lite-On; Manufacturer Part Number: LTST-C190KGKT; Forward Current: 30mA max; Luminous Intensity: 35mcd; Forward Voltage: 2.4V; DB Parameter 3: 571nm; Production Status: Active; Distributor: Digi-Key; Distributor Part Number: 160-1435-1-ND; Last Revision Date: 13.11.2020.; Temperature Range: -30°C ~ +85°C; Mounting: SMD; ComponentLink1Description: Datasheet; ComponentLink1URL: https://optoelectronics.liteon.com/upload/download/DS22-2000-074/LTST-C190KGKT.PDF; ComponentLink2Description: Distributor; ComponentLink2URL: https://www.digikey.com/en/products/detail/lite-on-inc/LTST-C190KGKT/386815; ComponentLink3Description: Manufacturer; ComponentLink3URL: https://optoelectronics.liteon.com/en-global/Led/LED-Component/Detail/448/0/LTST-C193TGKT-5A; Status: Not Checked; DB Parameter 1: Green; DB Parameter 2: 2.4V; LED Color: Green
footprint 0603 LED Green 0.8mm MS (0603 LED Green 0.35mm)
pins: A, K

## LED 0603 Top Green Pt03
designator LED?, comment Green
LED 0603 Top Green; Manufacturer: Broadcom Limited; Manufacturer Part Number: HSME-C190; Forward Current: 30mA max; Luminous Intensity: 50mcd; Forward Voltage: 2.1V; DB Parameter 3: 572nm; Production Status: Active; Distributor: Digi-Key; Distributor Part Number: 516-3543-1-ND; Last Revision Date: 29.01.2021; Temperature Range: -40°C ~ +85°C; Mounting: SMD; ComponentLink1Description: Datasheet; ComponentLink1URL: https://docs.broadcom.com/doc/AV02-0976EN; ComponentLink2Description: Distributor; ComponentLink2URL: https://www.digikey.com/en/products/detail/broadcom-limited/HSME-C190/6677161; ComponentLink3Description: Manufacturer; ComponentLink3URL: https://docs.broadcom.com/doc/AV02-0976EN; Status: Not Checked; DB Parameter 1: Green; DB Parameter 2: 2.1V; LED Color: Green
footprint 0603 LED Green 0.8mm MS (0603 LED Green 0.35mm)
pins: A, K

## LED 0805 Top Yellow
designator D1, comment Yellow
LED 0805 Top Yellow; Manufacturer: Everlight; Manufacturer Part Number: 17-215UYC/S53; Distributor: Schukat; Distributor Part Number: 17-215UYC/S53; Datasheet: https://www.schukat.com/schukat/pdf.nsf/index/074C514ACCE26FDEC1257EBC00420E42/$file/17-215UYC-S530-XX-TR8.pdf; Distributor URL: https://www.schukat.com/schukat/schukat_cms_en.nsf/index/suchergebnisse?OpenDocument&query=EL17-215UYC/S53&news=true&katalog=true; Manufacturer URL: http://www.everlight.com/SeriationProduct.aspx?Seq=fcc81a6b-2405-e411-8b3b-0002a54e500f; Last Revision Date: 22.09.2017.; Temperature Range: -40°C ~ +85°C; LED Color: Yellow; Package: 0805; Mounting: SMD; Marking: N/A
footprint LED 0805 Top Yellow
pins: 1 A, 2 K

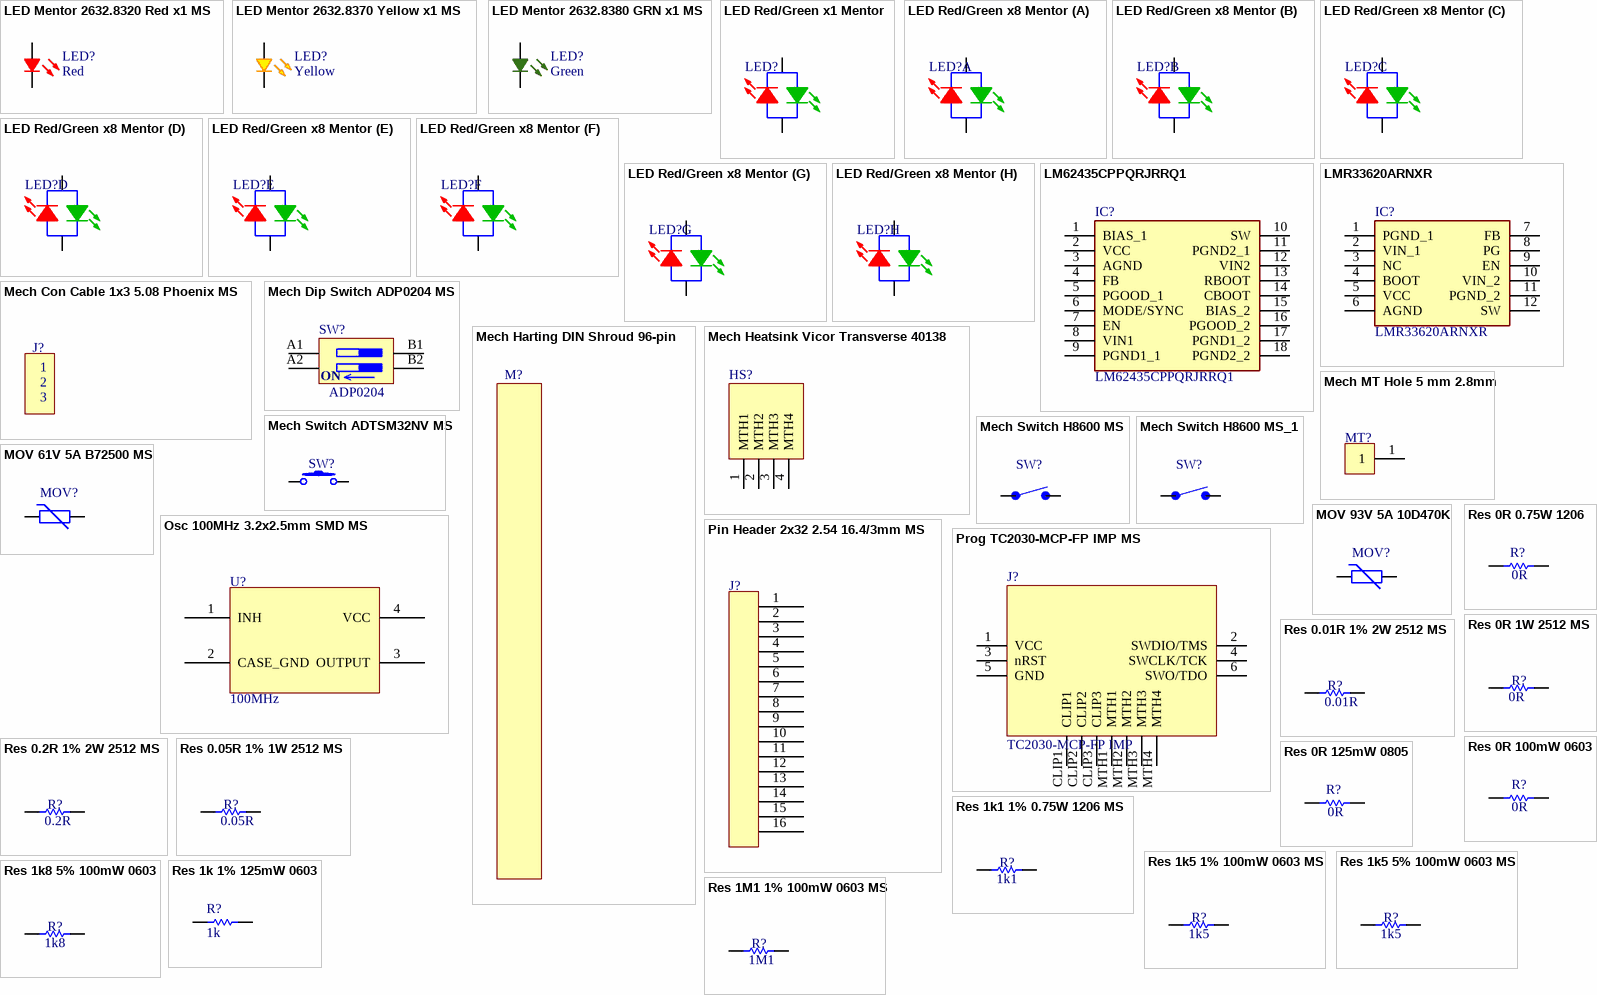
[diagram p19: symbols LED Mentor 2632.8320 Red x1 MS to Res 1M1 1% 100mW 0603 MS]

## LED Mentor 2632.8320 Red x1 MS
designator LED?, comment Red
LED Mentor 2632.8320 Red x1; Manufacturer Part Number: 2632.8320 1/8; Forward Current: 25mA; Luminous Intensity: 1.2 - 4 mcd; Forward Voltage: 2.25V; DB Parameter 3: 700nm; Production Status: Active; Distributor: Mentor; Distributor Part Number: 2632.8320 1/8; Manufacturer: Mentor; Last Revision Date: 17.03.2021; Temperature Range: -40°C ~ +85°C; Mounting: TH; ComponentLink1Description: Datasheet; ComponentLink1URL: https://www.mentor.de.com/productpdfs/opto/1145.pdf; ComponentLink2Description: Distributor; ComponentLink2URL: https://www.mentor.de.com/bauelemente/en/product/en-2632-8320/; ComponentLink3Description: Manufacturer; ComponentLink3URL: https://www.mentor.de.com/bauelemente/en/product/en-2632-8320/; Status: Not Checked; DB Parameter 1: Red; DB Parameter 2: 2.25V; LED Color: Red
footprint LED Red Mentor 2632.8320 x1
pins: A, K

## LED Mentor 2632.8370 Yellow x1 MS
designator LED?, comment Yellow
LED Mentor 2632.8370 Yellow x1; Manufacturer Part Number: 2632.8370 1/8; Forward Current: 25mA; Luminous Intensity: 10 - 20 mcd; Forward Voltage: 2.1V; DB Parameter 3: 588nm; Production Status: Active; Distributor: Mentor; Distributor Part Number: 2632.8370 1/8; Manufacturer: Mentor; Last Revision Date: 31.08.2021; Temperature Range: -40°C ~ +85°C; Mounting: TH; ComponentLink1Description: Datasheet; ComponentLink1URL: https://www.mentor.de.com/productpdfs/opto/1145.pdf; ComponentLink2Description: Distributor; ComponentLink2URL: https://www.mentor.de.com/bauelemente/en/product/en-2632-8320/; ComponentLink3Description: Manufacturer; ComponentLink3URL: https://www.mentor.de.com/bauelemente/en/product/en-2632-8320/; Status: Not Checked; DB Parameter 1: Yellow; DB Parameter 2: 2.1V; LED Color: Yellow
footprint LED Yellow Mentor 2632.8370 x1 MS (LED Yellow Mentor 2632.8370 x1)
pins: A, K

## LED Mentor 2632.8380 GRN x1 MS
designator LED?, comment Green
LED Mentor 2632.8320 GRN x1; Manufacturer Part Number: 2632.8380; Forward Current: 20mA; Luminous Intensity: 10-20 mcd; Forward Voltage: 2.2V; DB Parameter 3: 568nm; Production Status: Active; Distributor: Mentor; Distributor Part Number: 2632.8380; Manufacturer: Mentor; Last Revision Date: 30.03.2021; Temperature Range: -40°C ~ +85°C; Mounting: TH; ComponentLink1Description: Datasheet; ComponentLink1URL: https://www.mentor.de.com/productpdfs/opto/1145.pdf; ComponentLink2Description: Distributor; ComponentLink2URL: https://www.mentor.de.com/bauelemente/en/product/en-2632-8380/; ComponentLink3Description: Manufacturer; ComponentLink3URL: https://www.mentor.de.com/bauelemente/en/product/en-2632-8380/; Status: Not Checked; DB Parameter 1: Green; DB Parameter 2: 2.2V; LED Color: Green
footprint LED GRN Mentor 2632.8380 x1 (LED Red Mentor 2632.8320 x1)
pins: A, K

## LED Red/Green x1 Mentor
designator LED?, comment LED x1 Red/Green Mentor  (value not drawn)
BiColor LED Red/Green x1; Manufacturer Part Number: 2632.9053; DB Parameter 1: 2632.9053 (1 in package); DB Parameter 3: 1 in package; Production Status: Actvie; Datasheet: https://www.mentor-bauelemente.de/produktpdf/?katalog=opto&pdf=1145.pdf&id=2126; Distributor: Mentor; Distributor Part Number: 2632.9053; Distributor URL: https://www.mentor-bauelemente.de/en/products/opto/led-display-systems/?seite=32#startup; Last Revision Date: 19.01.2022; LED Color: Red/Green; Manufacturer: Mentor; Manufacturer URL: https://www.mentor-bauelemente.de/en/products/opto/led-display-systems/?seite=32#startup; Marking: N/A; Mounting: TH; Package: TH; Temperature Range: -40°C ~ +85°C; DB Parameter 2: Bicolor; ComponentLink1Description: Datasheet; ComponentLink1URL: https://www.mentor-bauelemente.de/produktpdf/?katalog=opto&pdf=1145.pdf&id=2126; ComponentLink2Description: Manufacturer; ComponentLink2URL: https://www.mentor-bauelemente.de/produktpdf/?katalog=opto&pdf=1145.pdf&id=2126; ComponentLink3Description: Distributor; ComponentLink3URL: https://www.mentor-bauelemente.de/produktpdf/?katalog=opto&pdf=1145.pdf&id=2126
footprint LED GRN Mentor 2632.9053 x1 MS (LED GRN Mentor 2632.9053 x1)
pins: 1 Red_A, 2 Red_C

## LED Red/Green x8 Mentor
designator LED?, comment LED x8 Red/Green Mentor  (value not drawn)
BiColor LED Red/Green x8; Manufacturer Part Number: 2632.9053; DB Parameter 3: 8 in package; Production Status: Actvie; Datasheet: https://www.mentor-bauelemente.de/produktpdf/?katalog=opto&pdf=1145.pdf&id=2126; Distributor: Mentor; Distributor Part Number: 2632.9053; Distributor URL: https://www.mentor-bauelemente.de/en/products/opto/led-display-systems/?seite=32#startup; Last Revision Date: 19.01.2022; LED Color: Red/Green; Manufacturer: Mentor; Manufacturer URL: https://www.mentor-bauelemente.de/en/products/opto/led-display-systems/?seite=32#startup; Marking: N/A; Mounting: TH; Package: TH; Temperature Range: -40°C ~ +85°C; DB Parameter 1: 2632.9053; DB Parameter 2: Bicolor; ComponentLink1Description: Datasheet; ComponentLink1URL: https://www.mentor-bauelemente.de/produktpdf/?katalog=opto&pdf=1145.pdf&id=2126; ComponentLink2Description: Manufacturer; ComponentLink2URL: https://www.mentor-bauelemente.de/produktpdf/?katalog=opto&pdf=1145.pdf&id=2126; ComponentLink3Description: Distributor; ComponentLink3URL: https://www.mentor-bauelemente.de/produktpdf/?katalog=opto&pdf=1145.pdf&id=2126
footprint LED x8 Mentor MS
part A pins: 1 Red_A, 2 Red_C
part B pins: 3 Red_A, 4 Red_C
part C pins: 5 Red_A, 6 Red_C
part D pins: 7 Red_A, 8 Red_C
part E pins: 9 Red_A, 10 Red_C
part F pins: 11 Red_A, 12 Red_C
part G pins: 13 Red_A, 14 Red_C
part H pins: 15 Red_A, 16 Red_C

## LM62435CPPQRJRRQ1
designator IC?
Integrated Circuit; Manufacturer_Name: Texas Instruments; Datasheet Link: http://www.ti.com/lit/gpn/lm62435-q1?HQS=ti-null-null-sf-df-pf-sep-wwe&DCM=yes; Height: 1mm; Manufacturer_Part_Number: LM62435CPPQRJRRQ1; Mouser Part Number: 595-M62435CPPQRJRRQ1; Mouser Price/Stock: https://www.mouser.co.uk/ProductDetail/Texas-Instruments/LM62435CPPQRJRRQ1?qs=7MVldsJ5Uaw9vcpskhY66Q%3D%3D; Arrow Part Number: LM62435CPPQRJRRQ1; Arrow Price/Stock: https://www.arrow.com/en/products/lm62435cppqrjrrq1/texas-instruments?region=nac
footprint LM61440AASQRJRRQ1
pins: 1 BIAS_1, 2 VCC, 3 AGND, 4 FB, 5 PGOOD_1, 6 MODE/SYNC, 7 EN, 8 VIN1, 9 PGND1_1, 10 SW, 11 PGND2_1, 12 VIN2, 13 RBOOT, 14 CBOOT, 15 BIAS_2, 16 PGOOD_2, 17 PGND1_2, 18 PGND2_2

## LMR33620ARNXR
designator IC?
Integrated Circuit; Manufacturer_Name: Texas Instruments; Datasheet Link: http://www.ti.com/product/LMR33620; Height: 0.9mm; Manufacturer_Part_Number: LMR33620ARNXR; Mouser Part Number: 595-LMR33620ARNXR; Mouser Price/Stock: https://www.mouser.co.uk/ProductDetail/Texas-Instruments/LMR33620ARNXR/?qs=55YtniHzbhBNiSUix0mJQw%3D%3D; Arrow Part Number: LMR33620ARNXR; Arrow Price/Stock: https://www.arrow.com/en/products/lmr33620arnxr/texas-instruments
footprint LMR36015FSCQRNXTQ1
pins: 1 PGND_1, 2 VIN_1, 3 NC, 4 BOOT, 5 VCC, 6 AGND, 7 FB, 8 PG, 9 EN, 10 VIN_2, 11 PGND_2, 12 SW

## Mech Con Cable 1x3 5.08 Phoenix MS
designator J?, comment Con Cable Female TH 3-pin  (value not drawn)
Con Cable 1x3 5.08 12A; Manufacturer: Phoenix Contact; Manufacturer Part Number: 1777992; DB Parameter 1: MSTB 2,5/ 3-STF-5,08; DB Parameter 3: 320V; Production Status: Active; Distributor: Digi-Key; Distributor Part Number: 277-5712-ND; Last Revision Date: 26.07.2021; Temperature Range: -40°C ~ +70°C; Mounting: Cable; ComponentLink1Description: Datasheet; ComponentLink1URL: https://www.phoenixcontact.com/online/portal/pi/pxc/product_detail_page/!ut/p/z1/5VdJT-MwFP4rnUNvuHZWJ8cSGMpSaNUyNLlEjuNUZrLhmBb49WO3malAEA6IwyjRU2I7b_veEuXBCK5gVJINXxPJq5Lkah9GbmyeGciY2Mb0Bs8xmh9fnc7PTi_N-dSBv2AEo4bljEqWBkSydSWeYTi-utIvJElgaOhVTelvGM6AYQBkqrs-y3kiiOauOSt3TDxV7Bhj3zf1vspmQXD5VkxymTN1KHipbALKBX3kcpBURKQDWpWl8qUSAzCYLpbHA_PIGaKBBRbLn8A5Qp46_2vhrgvc-BrDqBv7Xh59cI3RZ_KhkscfMtxacKHh8rKRpKRMx-bdqB2CLJhi2zCxZ6xFlT5SecIk4XlzLllx_jq8H6btbR7qNCuqlLVqq4br6nhlRO2X7Em2Z-_kWqnISbl-JGutphu5gXqL3OwtcqO3yHvb55Pe9vmkt30-6W2fT3rb535v-9zvbbX7vf3C-VghD09giENrthrDCxWEpBhtaTFCo_qJjlqjcbqDFtdaqZqz-P3DQzSGkZpgpHZmpSM0RFuWDFFBuFq2gs0Q5byRO0G1ngXH8b-pp4kPjg9RSh0PExeDxLERsF3XBcRENmDMMhM3w4ble2qKiboGld0ctGPoGHQWrIxPTuPZKpidd4dnarvwbsPZFt6WlSjUiLnYB10nLUsS03RtH_jY0f76HvBchwDMqGUljBrUY1D9NXxiwfmihW71l-73qsffqj74qvcXXcUyvTHfLWVVu4dirrKsfTFETIhK7CsZ1kXhWS2B29XLkiUvr8lD1oFlT_H1tbN5Q_-bpPdsoXs7vNhst8usCBKvfTxvf_wBmlHkLA!!/; ComponentLink2Description: Distributor; ComponentLink2URL: https://www.digikey.com/en/products/detail/phoenix-contact/1777992/349030; ComponentLink3Description: Manufacturer; ComponentLink3URL: https://www.phoenixcontact.com/online/portal/pi/pxc/product_detail_page/!ut/p/z1/5VdJT-MwFP4rnUNvuHZWJ8cSGMpSaNUyNLlEjuNUZrLhmBb49WO3malAEA6IwyjRU2I7b_veEuXBCK5gVJINXxPJq5Lkah9GbmyeGciY2Mb0Bs8xmh9fnc7PTi_N-dSBv2AEo4bljEqWBkSydSWeYTi-utIvJElgaOhVTelvGM6AYQBkqrs-y3kiiOauOSt3TDxV7Bhj3zf1vspmQXD5VkxymTN1KHipbALKBX3kcpBURKQDWpWl8qUSAzCYLpbHA_PIGaKBBRbLn8A5Qp46_2vhrgvc-BrDqBv7Xh59cI3RZ_KhkscfMtxacKHh8rKRpKRMx-bdqB2CLJhi2zCxZ6xFlT5SecIk4XlzLllx_jq8H6btbR7qNCuqlLVqq4br6nhlRO2X7Em2Z-_kWqnISbl-JGutphu5gXqL3OwtcqO3yHvb55Pe9vmkt30-6W2fT3rb535v-9zvbbX7vf3C-VghD09giENrthrDCxWEpBhtaTFCo_qJjlqjcbqDFtdaqZqz-P3DQzSGkZpgpHZmpSM0RFuWDFFBuFq2gs0Q5byRO0G1ngXH8b-pp4kPjg9RSh0PExeDxLERsF3XBcRENmDMMhM3w4ble2qKiboGld0ctGPoGHQWrIxPTuPZKpidd4dnarvwbsPZFt6WlSjUiLnYB10nLUsS03RtH_jY0f76HvBchwDMqGUljBrUY1D9NXxiwfmihW71l-73qsffqj74qvcXXcUyvTHfLWVVu4dirrKsfTFETIhK7CsZ1kXhWS2B29XLkiUvr8lD1oFlT_H1tbN5Q_-bpPdsoXs7vNhst8usCBKvfTxvf_wBmlHkLA!!/; Status: Not Checked; Rated Current: 12A; DB Parameter 2: 12A; Mating Part: MSTB 2,5/ 3-STF-5,08
footprint MSTB 2,5/ 3-STF-5,08 - 1777992
text: 1; 2; 3

## Mech Dip Switch ADP0204 MS
designator SW?, comment ADP0204
SWITCH PIANO DIP SPST 100MA 24V; Manufacturer: TE Connectivity; Manufacturer Part Number: 1571999-1; Rated Voltage: 24VDC; Production Status: Active; Distributor: Digi-Key; Distributor Part Number: 450-1355-ND; Last Revision Date: 30.03.2021; Temperature Range: -30°C ~ +85°C; Mounting: TH; ComponentLink1Description: Datasheet; ComponentLink1URL: https://www.te.com/commerce/DocumentDelivery/DDEController?Action=srchrtrv&DocNm=1571999&DocType=Customer+Drawing&DocLang=English; ComponentLink2Description: Distributor; ComponentLink2URL: https://www.digikey.com/en/products/detail/te-connectivity-alcoswitch-switches/1571999-1/969165; ComponentLink3Description: Manufacturer; ComponentLink3URL: https://www.te.com/global-en/product-1571999-1.html?source=header-match; Status: Not Checked; Rated Current: 100mA; DB Parameter 1: 100mA; DB Parameter 2: 24VDC
footprint ADP0204
pins: A1, A2, B1, B2
text: ON